# EAGLE library part ESPRUINO (library espruino_pico)
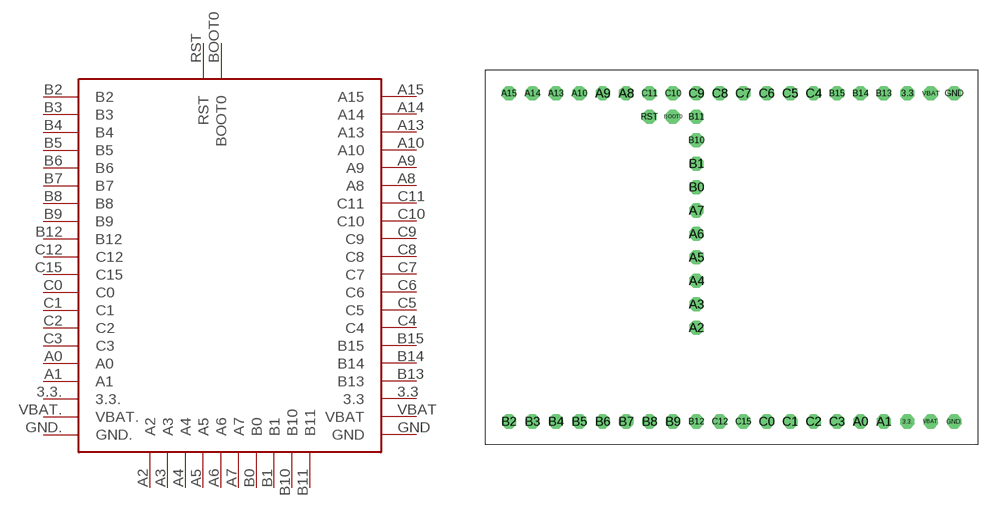
[diagram p4: symbol with the pads of ESPRUINO; footprint ESPRUINO]

Designator prefix -

## ESPRUINO  [ESPRUINO]
3.3  3.3
3.3.  3.3.
A0  A0
A1  A1
A2  A2
A3  A3
A4  A4
A5  A5
A6  A6
A7  A7
A8  A8
A9  A9
A10  A10
A13  A13
A14  A14
A15  A15
B0  B0
B1  B1
B2  B2
B3  B3
B4  B4
B5  B5
B6  B6
B7  B7
B8  B8
B9  B9
B10  B10
B11  B11
B12  B12
B13  B13
B14  B14
B15  B15
BOOT0  BOOT0
C0  C0
C1  C1
C2  C2
C3  C3
C4  C4
C5  C5
C6  C6
C7  C7
C8  C8
C9  C9
C10  C10
C11  C11
C12  C12
C15  C15
GND  GND
GND.  GND.
RST  RST
VBAT  VBAT
VBAT.  VBAT.

## Footprint ESPRUINO (pad centres in mm)
drill 1.016 octagon: 3.3 19.05,16.51; 3.3. 19.05,-19.05; A0 13.97,-19.05; A1 16.51,-19.05; A2 -3.81,-8.89; A3 -3.81,-6.35; A4 -3.81,-3.81; A5 -3.81,-1.27; A6 -3.81,1.27; A7 -3.81,3.81; A8 -11.43,16.51; A9 -13.97,16.51; A10 -16.51,16.51; A13 -19.05,16.51; A14 -21.59,16.51; A15 -24.13,16.51; B0 -3.81,6.35; B1 -3.81,8.89; B2 -24.13,-19.05; B3 -21.59,-19.05; B4 -19.05,-19.05; B5 -16.51,-19.05; B6 -13.97,-19.05; B7 -11.43,-19.05; B8 -8.89,-19.05; B9 -6.35,-19.05; B10 -3.81,11.43; B11 -3.81,13.97; B12 -3.81,-19.05; B13 16.51,16.51; B14 13.97,16.51; B15 11.43,16.51; BOOT0 -6.35,13.97; C0 3.81,-19.05; C1 6.35,-19.05; C2 8.89,-19.05; C3 11.43,-19.05; C4 8.89,16.51; C5 6.35,16.51; C6 3.81,16.51; C7 1.27,16.51; C8 -1.27,16.51; C9 -3.81,16.51; C10 -6.35,16.51; C11 -8.89,16.51; C12 -1.27,-19.05; C15 1.27,-19.05; GND 24.13,16.51; GND. 24.13,-19.05; RST -8.89,13.97; VBAT 21.59,16.51; VBAT. 21.59,-19.05